# EAGLE library part TPS62177 (library ICs)
Synchronous Buck (Step Down) Switching Regulator, Fixed, 4.75V-28V In, 3.3V And 0.5A Out, WSON-10
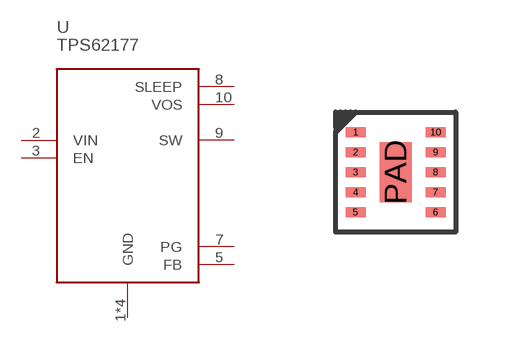
[diagram p120: symbol with the pads of WSON10; footprint WSON10]

Designator prefix U

## TPS62177DQCT (FARNELL: 2255014; PRICE_PER: 1.66; VALUE: TPS62177)  [WSON10]
1  GND
2  VIN
3  EN
4  GND
5  FB
6  GND
7  PG
8  SLEEP
9  SW
10  VOS
PAD  GND

## Footprint WSON10 (pad centres in mm)
smd 0.5 x 0.25: 1 -1,1; 2 -1,0.5; 3 -1,0; 4 -1,-0.5; 5 -1,-1; 6 1,-1; 7 1,-0.5; 8 1,0; 9 1,0.5; 10 1,1
smd 0.8 x 1.5: PAD 0,0